# Altium schematic symbol library LTC8315.SchLib: 3 symbols
Pins are listed as number, name and electrical type; pins without a type are passive.

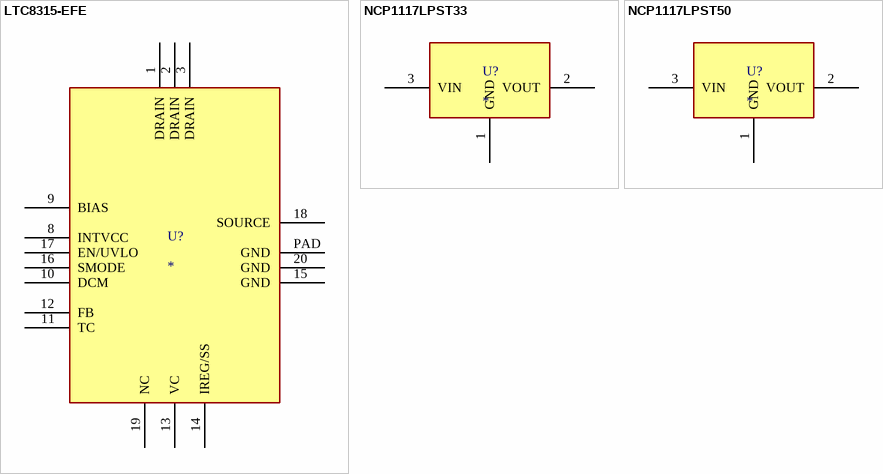
[diagram p0: symbols LTC8315-EFE to NCP1117LPST50]

## LTC8315-EFE
designator U?
pins: 1 DRAIN, 2 DRAIN, 3 DRAIN, 8 INTVCC, 9 BIAS, 10 DCM, 11 TC, 12 FB, 13 VC, 14 IREG/SS, 15 GND, 16 SMODE, 17 EN/UVLO, 18 SOURCE, 19 NC, 20 GND, PAD GND

## NCP1117LPST33
designator U?
pins: 1 GND, 2 VOUT, 3 VIN

## NCP1117LPST50
designator U?
pins: 1 GND, 2 VOUT, 3 VIN